# EAGLE library part CD4060BM (library CD4060BM)
Designed by AKstudios github.com/akstudios
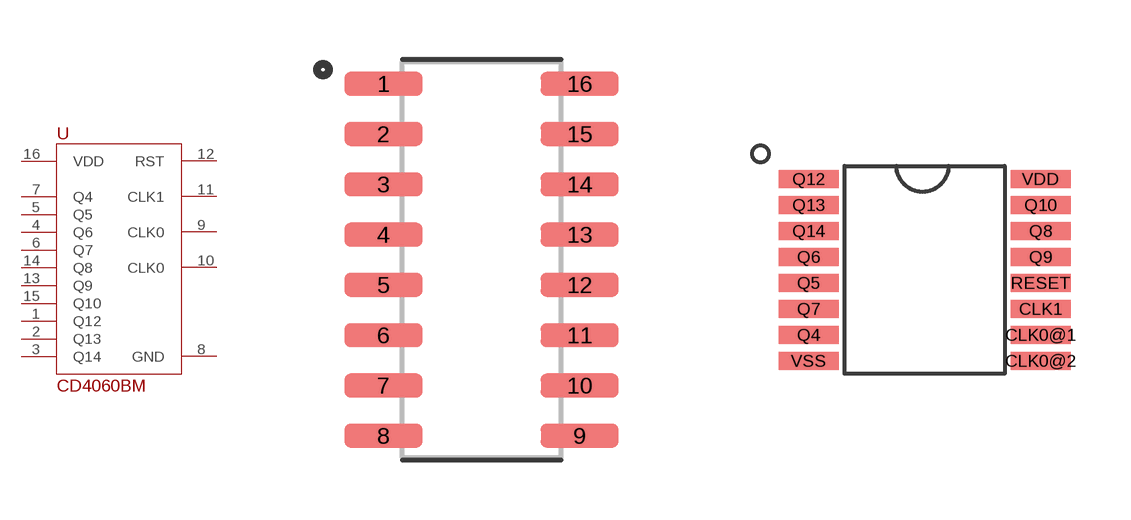
[diagram p0: symbol with the pads of SOIC127P600X175-16N; footprints SOIC127P600X175-16N, TSSOP-16]

Designator prefix -

## CD4060BM  [SOIC127P600X175-16N]
1  Q12
2  Q13
3  Q14
4  Q6
5  Q5
6  Q7
7  Q4
8  GND
9  CLK0
10  CLK0
11  CLK1
12  RST
13  Q9
14  Q8
15  Q10
16  VDD

## CD4060BMTSSOP-16  [TSSOP-16]
CLK0@1  CLK0
CLK0@2  CLK0
CLK1  CLK1
Q4  Q4
Q5  Q5
Q6  Q6
Q7  Q7
Q8  Q8
Q9  Q9
Q10  Q10
Q12  Q12
Q13  Q13
Q14  Q14
RESET  RST
VDD  VDD
VSS  GND

## Footprint SOIC127P600X175-16N (pad centres in mm)
Small Outline Package
smd 1.97 x 0.6: 1 -2.475,4.445; 2 -2.475,3.175; 3 -2.475,1.905; 4 -2.475,0.635; 5 -2.475,-0.635; 6 -2.475,-1.905; 7 -2.475,-3.175; 8 -2.475,-4.445; 9 2.475,-4.445; 10 2.475,-3.175; 11 2.475,-1.905; 12 2.475,-0.635; 13 2.475,0.635; 14 2.475,1.905; 15 2.475,3.175; 16 2.475,4.445

## Footprint TSSOP-16 (pad centres in mm)
smd 1.5 x 0.45: CLK0@1 5.8,0.875; CLK0@2 5.8,0.225; CLK1 5.8,1.525; Q4 0,0.875; Q5 0,2.175; Q6 0,2.825; Q7 0,1.525; Q8 5.8,3.475; Q9 5.8,2.825; Q10 5.8,4.125; Q12 0,4.775; Q13 0,4.125; Q14 0,3.475; RESET 5.8,2.175; VDD 5.8,4.775; VSS 0,0.225